# Altium integrated library AI-1223-TWT-12V-R.IntLib: 1 symbol
Pins are listed as number, name and electrical type; pins without a type are passive.

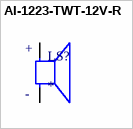
[diagram p0: symbol AI-1223-TWT-12V-R]

## AI-1223-TWT-12V-R
designator LS?
ELECTRO-MECHANICAL AUDIO INDICATOR; MP: AI-1223-TWT-12V-R; MF: PUI Audio,; SnapEDA_Link: https://www.snapeda.com/parts/AI-1223-TWT-12V-R/PUI+Audio%252C+Inc./view-part/?ref=snap; Package: None; Check_prices: https://www.snapeda.com/parts/AI-1223-TWT-12V-R/PUI+Audio%252C+Inc./view-part/?ref=eda; Purchase-URL: https://pricing.snapeda.com/search/part/AI-1223-TWT-12V-R/?ref=eda; Price: None; Value: *; Availability: In Stock
footprint XDCR_AI-1223-TWT-12V-R
pins: N NEG, P POS
text: +; -